# Altium schematic symbol library Regulators.SchLib: 1 symbol
Pins are listed as number, name and electrical type; pins without a type are passive.

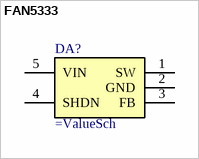
[diagram p0: symbol FAN5333]

## FAN5333
designator DA?
FAN5333
pins: 1 SW, 2 GND, 3 FB, 4 SHDN, 5 VIN